# EAGLE library part DB25F_L77SDBH25SOL2RM5 (library Egna komponenter)
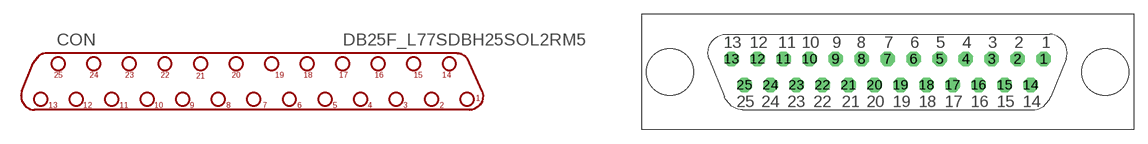
[diagram p13: symbol with the pads of D-25F_L77SDBBH25SOL2RM5; footprint D-25F_L77SDBBH25SOL2RM5]

Designator prefix CON

## DB25F_L77SDBH25SOL2RM5  [D-25F_L77SDBBH25SOL2RM5]
1  1  pas
2  2  pas
3  3  pas
4  4  pas
5  5  pas
6  6  pas
7  7  pas
8  8  pas
9  9  pas
10  10  pas
11  11  pas
12  12  pas
13  13  pas
14  14  pas
15  15  pas
16  16  pas
17  17  pas
18  18  pas
19  19  pas
20  20  pas
21  21  pas
22  22  pas
23  23  pas
24  24  pas
25  25  pas

## Footprint D-25F_L77SDBBH25SOL2RM5 (pad centres in mm)
drill 1.016 pad 1.575 octagon: 1 16.764,1.397; 2 13.97,1.397; 3 11.176,1.397; 4 8.382,1.397; 5 5.588,1.397; 6 2.794,1.397; 7 0,1.397; 8 -2.794,1.397; 9 -5.588,1.397; 10 -8.382,1.397; 11 -11.176,1.397; 12 -13.97,1.397; 13 -16.764,1.397; 14 15.367,-1.397; 15 12.573,-1.397; 16 9.779,-1.397; 17 6.985,-1.397; 18 4.191,-1.397; 19 1.397,-1.397; 20 -1.397,-1.397; 21 -4.191,-1.397; 22 -6.985,-1.397; 23 -9.779,-1.397; 24 -12.573,-1.397; 25 -15.367,-1.397